# Altium footprint library am29-memory.PCBLIB: 16 footprints
Each footprint in its own frame and in the unit in brackets; x right, y up, seen from the top. Pads: shape width x height; smd on the part's side, far side on the other; paste and mask are expansions set on the pad; w line width, h text height; cw(c..) or ccw(c..) is an arc to the next point about the centre after c.
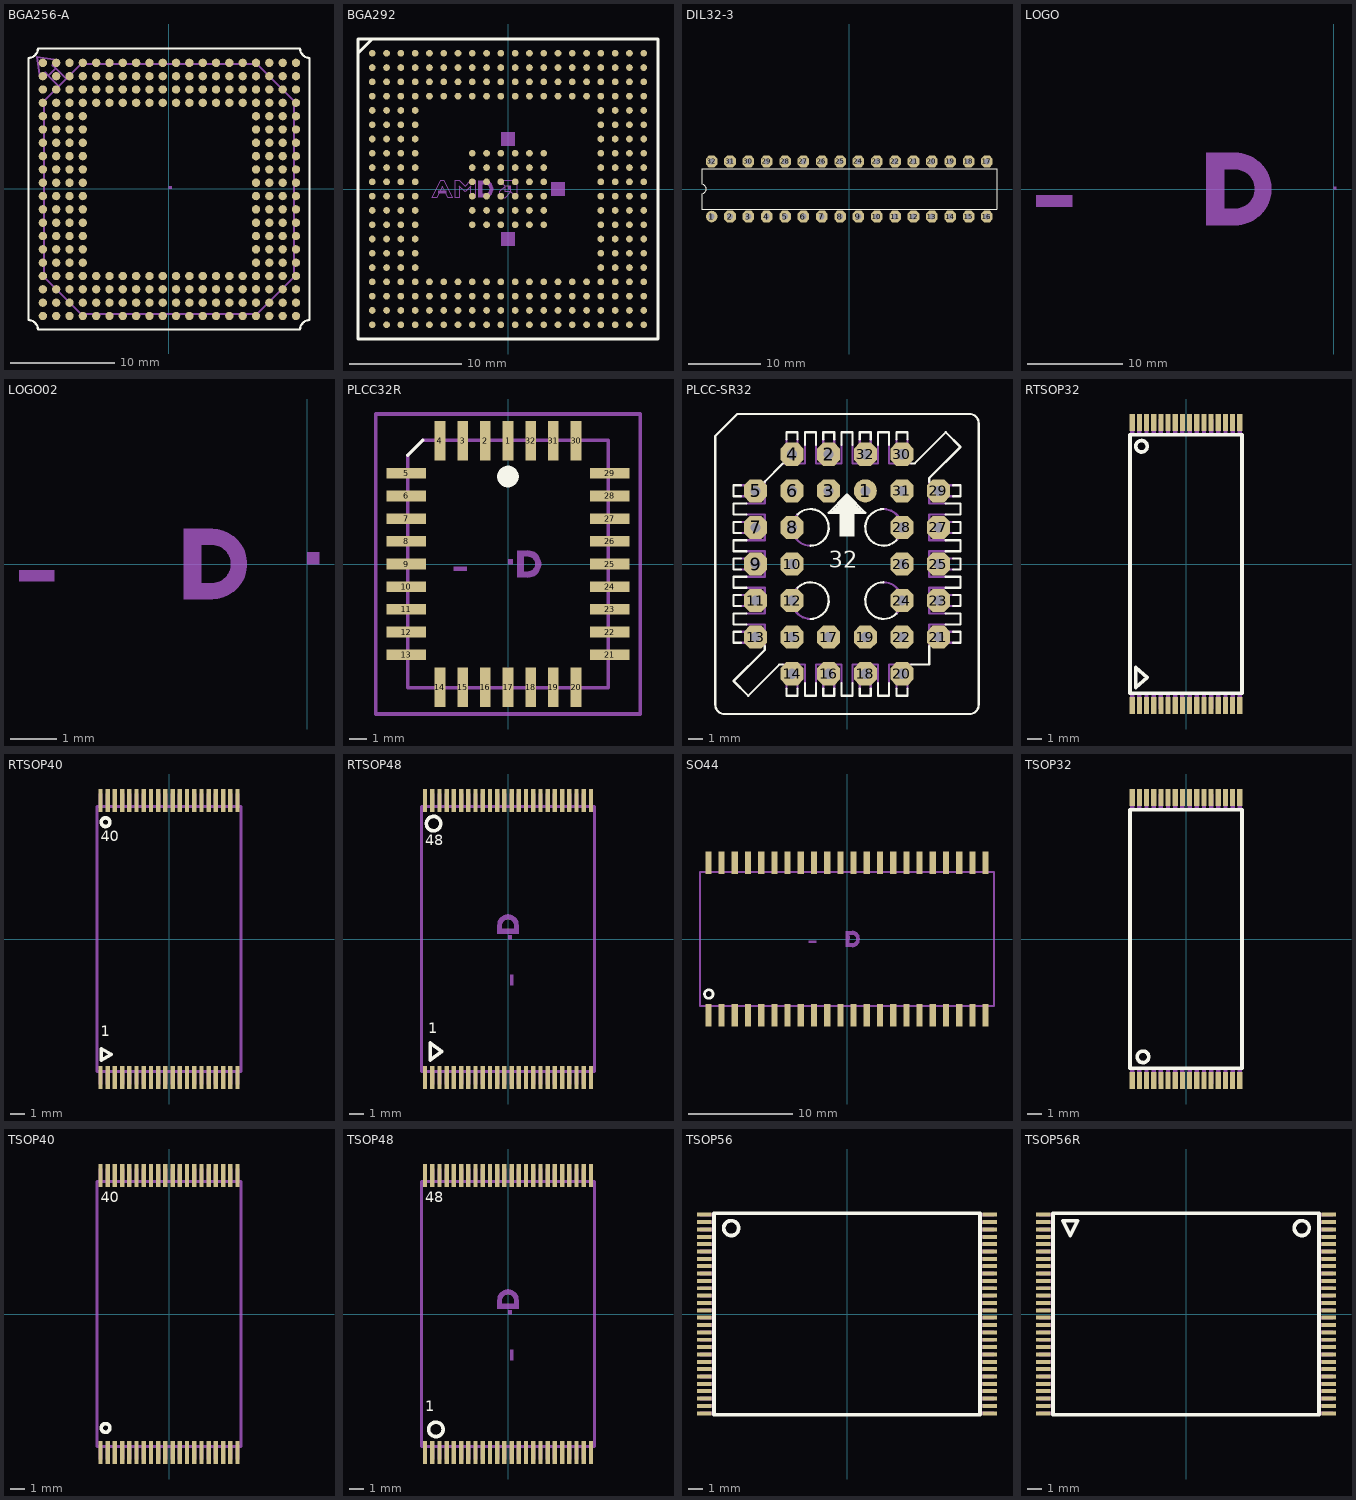
[diagram p0: the footprints below, top view; thin cyan lines are the x and y axes]

## BGA256-A [mil]
pads (256):
  rrect100% 31.5x31.5 smd: A1(-473.43,473.43) A2(-423.43,473.43) A3(-373.43,473.43) A4(-323.43,473.43) A5(-273.43,473.43) A6(-223.43,473.43) A7(-173.43,473.43) A8(-123.43,473.43) A9(-73.43,473.43) A10(-23.43,473.43) A11(26.57,473.43) A12(76.57,473.43) A13(126.57,473.43) A14(176.57,473.43) A15(226.57,473.43) A16(276.57,473.43) A17(326.57,473.43) A18(376.57,473.43) A19(426.57,473.43) A20(476.57,473.43) B1(-473.43,423.43) B2(-423.43,423.43) B3(-373.43,423.43) B4(-323.43,423.43) B5(-273.43,423.43) B6(-223.43,423.43) B7(-173.43,423.43) B8(-123.43,423.43) B9(-73.43,423.43) B10(-23.43,423.43) B11(26.57,423.43) B12(76.57,423.43) B13(126.57,423.43) B14(176.57,423.43) B15(226.57,423.43) B16(276.57,423.43) B17(326.57,423.43) B18(376.57,423.43) B19(426.57,423.43) B20(476.57,423.43) C1(-473.43,373.43) C2(-423.43,373.43) C3(-373.43,373.43) C4(-323.43,373.43) C5(-273.43,373.43) C6(-223.43,373.43) C7(-173.43,373.43) C8(-123.43,373.43) C9(-73.43,373.43) C10(-23.43,373.43) C11(26.57,373.43) C12(76.57,373.43) C13(126.57,373.43) C14(176.57,373.43) C15(226.57,373.43) C16(276.57,373.43) C17(326.57,373.43) C18(376.57,373.43) C19(426.57,373.43) C20(476.57,373.43) D1(-473.43,323.43) D2(-423.43,323.43) D3(-373.43,323.43) D4(-323.43,323.43) D5(-273.43,323.43) D6(-223.43,323.43) D7(-173.43,323.43) D8(-123.43,323.43) D9(-73.43,323.43) D10(-23.43,323.43) D11(26.57,323.43) D12(76.57,323.43) D13(126.57,323.43) D14(176.57,323.43) D15(226.57,323.43) D16(276.57,323.43) D17(326.57,323.43) D18(376.57,323.43) D19(426.57,323.43) D20(476.57,323.43) E1(-473.43,273.43) E2(-423.43,273.43) E3(-373.43,273.43) E4(-323.43,273.43) E17(326.57,273.43) E18(376.57,273.43) E19(426.57,273.43) E20(476.57,273.43) F1(-473.43,223.43) F2(-423.43,223.43) F3(-373.43,223.43) F4(-323.43,223.43) F17(326.57,223.43) F18(376.57,223.43) F19(426.57,223.43) F20(476.57,223.43) G1(-473.43,173.43) G2(-423.43,173.43) G3(-373.43,173.43) G4(-323.43,173.43) G17(326.57,173.43) G18(376.57,173.43) G19(426.57,173.43) G20(476.57,173.43) H1(-473.43,123.43) H2(-423.43,123.43) H3(-373.43,123.43) H4(-323.43,123.43) H17(326.57,123.43) H18(376.57,123.43) H19(426.57,123.43) H20(476.57,123.43) J1(-473.43,73.43) J2(-423.43,73.43) J3(-373.43,73.43) J4(-323.43,73.43) J17(326.57,73.43) J18(376.57,73.43) J19(426.57,73.43) J20(476.57,73.43) K1(-473.43,23.43) K2(-423.43,23.43) K3(-373.43,23.43) K4(-323.43,23.43) K17(326.57,23.43) K18(376.57,23.43) K19(426.57,23.43) K20(476.57,23.43) L1(-473.43,-26.57) L2(-423.43,-26.57) L3(-373.43,-26.57) L4(-323.43,-26.57) L17(326.57,-26.57) L18(376.57,-26.57) L19(426.57,-26.57) L20(476.57,-26.57) M1(-473.43,-76.57) M2(-423.43,-76.57) M3(-373.43,-76.57) M4(-323.43,-76.57) M17(326.57,-76.57) M18(376.57,-76.57) M19(426.57,-76.57) M20(476.57,-76.57) N1(-473.43,-126.57) N2(-423.43,-126.57) N3(-373.43,-126.57) N4(-323.43,-126.57) N17(326.57,-126.57) N18(376.57,-126.57) N19(426.57,-126.57) N20(476.57,-126.57) P1(-473.43,-176.57) P2(-423.43,-176.57) P3(-373.43,-176.57) P4(-323.43,-176.57) P17(326.57,-176.57) P18(376.57,-176.57) P19(426.57,-176.57) P20(476.57,-176.57) R1(-473.43,-226.57) R2(-423.43,-226.57) R3(-373.43,-226.57) R4(-323.43,-226.57) R17(326.57,-226.57) R18(376.57,-226.57) R19(426.57,-226.57) R20(476.57,-226.57) T1(-473.43,-276.57) T2(-423.43,-276.57) T3(-373.43,-276.57) T4(-323.43,-276.57) T17(326.57,-276.57) T18(376.57,-276.57) T19(426.57,-276.57) T20(476.57,-276.57) U1(-473.43,-326.57) U2(-423.43,-326.57) U3(-373.43,-326.57) U4(-323.43,-326.57) U5(-273.43,-326.57) U6(-223.43,-326.57) U7(-173.43,-326.57) U8(-123.43,-326.57) U9(-73.43,-326.57) U10(-23.43,-326.57) U11(26.57,-326.57) U12(76.57,-326.57) U13(126.57,-326.57) U14(176.57,-326.57) U15(226.57,-326.57) U16(276.57,-326.57) U17(326.57,-326.57) U18(376.57,-326.57) U19(426.57,-326.57) U20(476.57,-326.57) V1(-473.43,-376.57) V2(-423.43,-376.57) V3(-373.43,-376.57) V4(-323.43,-376.57) V5(-273.43,-376.57) V6(-223.43,-376.57) V7(-173.43,-376.57) V8(-123.43,-376.57) V9(-73.43,-376.57) V10(-23.43,-376.57) V11(26.57,-376.57) V12(76.57,-376.57) V13(126.57,-376.57) V14(176.57,-376.57) V15(226.57,-376.57) V16(276.57,-376.57) V17(326.57,-376.57) V18(376.57,-376.57) V19(426.57,-376.57) V20(476.57,-376.57) W1(-473.43,-426.57) W2(-423.43,-426.57) W3(-373.43,-426.57) W4(-323.43,-426.57) W5(-273.43,-426.57) W6(-223.43,-426.57) W7(-173.43,-426.57) W8(-123.43,-426.57) W9(-73.43,-426.57) W10(-23.43,-426.57) W11(26.57,-426.57) W12(76.57,-426.57) W13(126.57,-426.57) W14(176.57,-426.57) W15(226.57,-426.57) W16(276.57,-426.57) W17(326.57,-426.57) W18(376.57,-426.57) W19(426.57,-426.57) W20(476.57,-426.57) Y1(-473.43,-476.57) Y2(-423.43,-476.57) Y3(-373.43,-476.57) Y4(-323.43,-476.57) Y5(-273.43,-476.57) Y6(-223.43,-476.57) Y7(-173.43,-476.57) Y8(-123.43,-476.57) Y9(-73.43,-476.57) Y10(-23.43,-476.57) Y11(26.57,-476.57) Y12(76.57,-476.57) Y13(126.57,-476.57) Y14(176.57,-476.57) Y15(226.57,-476.57) Y16(276.57,-476.57) Y17(326.57,-476.57) Y18(376.57,-476.57) Y19(426.57,-476.57) Y20(476.57,-476.57)
Top Overlay:
  lines w8: -527.56,-492.13 -527.56,492.13 ccw(c-527.56,527.56) -492.13,527.56 492.13,527.56 ccw(c527.56,527.56) 527.56,492.13 527.56,-492.13 ccw(c527.56,-527.56) 492.13,-527.56 -492.13,-527.56 ccw(c-527.56,-527.56) -527.56,-492.13
Mechanical 16:
  region: 0,0 10,0 10,10 0,10
  region: 0,0 10,0 10,10 0,10
  lines w8: -452.76,425.2 -464.57,437.01 -484.25,417.32 -496.06,496.06 -417.32,484.25 -437.01,464.57 -425.2,452.76 ; -452.76,425.2 -413.39,385.83 ; -452.76,425.2 -425.2,452.76 ; -425.2,452.76 -385.83,413.39 ; -413.39,385.83 -468.5,330.71 -468.5,-330.71 -330.71,-468.5 330.71,-468.5 468.5,-330.71 468.5,330.71 330.71,468.5 -330.71,468.5 -385.83,413.39 ; -413.39,385.83 -385.83,413.39 ; -413.39,385.83 -385.83,413.39

## BGA292 [mil]
pads (292):
  rrect100% 23.62x23.62 smd: A01(-475,475) A02(-425,475) A03(-375,475) A04(-325,475) A05(-275,475) A06(-225,475) A07(-175,475) A08(-125,475) A09(-75,475) A10(-25,475) A11(25,475) A12(75,475) A13(125,475) A14(175,475) A15(225,475) A16(275,475) A17(325,475) A18(375,475) A19(425,475) A20(475,475) B01(-475,425) B02(-425,425) B03(-375,425) B04(-325,425) B05(-275,425) B06(-225,425) B07(-175,425) B08(-125,425) B09(-75,425) B10(-25,425) B11(25,425) B12(75,425) B13(125,425) B14(175,425) B15(225,425) B16(275,425) B17(325,425) B18(375,425) B19(425,425) B20(475,425) C01(-475,375) C02(-425,375) C03(-375,375) C04(-325,375) C05(-275,375) C06(-225,375) C07(-175,375) C08(-125,375) C09(-75,375) C10(-25,375) C11(25,375) C12(75,375) C13(125,375) C14(175,375) C15(225,375) C16(275,375) C17(325,375) C18(375,375) C19(425,375) C20(475,375) D01(-475,325) D02(-425,325) D03(-375,325) D04(-325,325) D05(-275,325) D06(-225,325) D07(-175,325) D08(-125,325) D09(-75,325) D10(-25,325) D11(25,325) D12(75,325) D13(125,325) D14(175,325) D15(225,325) D16(275,325) D17(325,325) D18(375,325) D19(425,325) D20(475,325) E01(-475,275) E02(-425,275) E03(-375,275) E04(-325,275) E17(325,275) E18(375,275) E19(425,275) E20(475,275) F01(-475,225) F02(-425,225) F03(-375,225) F04(-325,225) F17(325,225) F18(375,225) F19(425,225) F20(475,225) G01(-475,175) G02(-425,175) G03(-375,175) G04(-325,175) G17(325,175) G18(375,175) G19(425,175) G20(475,175) H01(-475,125) H02(-425,125) H03(-375,125) H04(-325,125) H08(-125,125) H09(-75,125) H10(-25,125) H11(25,125) H12(75,125) H13(125,125) H17(325,125) H18(375,125) H19(425,125) H20(475,125) J01(-475,75) J02(-425,75) J03(-375,75) J04(-325,75) J08(-125,75) J09(-75,75) J10(-25,75) J11(25,75) J12(75,75) J13(125,75) J17(325,75) J18(375,75) J19(425,75) J20(475,75) K01(-475,25) K02(-425,25) K03(-375,25) K04(-325,25) K08(-125,25) K09(-75,25) K10(-25,25) K11(25,25) K12(75,25) K13(125,25) K17(325,25) K18(375,25) K19(425,25) K20(475,25) L01(-475,-25) L02(-425,-25) L03(-375,-25) L04(-325,-25) L08(-125,-25) L09(-75,-25) L10(-25,-25) L11(25,-25) L12(75,-25) L13(125,-25) L17(325,-25) L18(375,-25) L19(425,-25) L20(475,-25) M01(-475,-75) M02(-425,-75) M03(-375,-75) M04(-325,-75) M08(-125,-75) M09(-75,-75) M10(-25,-75) M11(25,-75) M12(75,-75) M13(125,-75) M17(325,-75) M18(375,-75) M19(425,-75) M20(475,-75) N01(-475,-125) N02(-425,-125) N03(-375,-125) N04(-325,-125) N08(-125,-125) N09(-75,-125) N10(-25,-125) N11(25,-125) N12(75,-125) N13(125,-125) N17(325,-125) N18(375,-125) N19(425,-125) N20(475,-125) P01(-475,-175) P02(-425,-175) P03(-375,-175) P04(-325,-175) P17(325,-175) P18(375,-175) P19(425,-175) P20(475,-175) R01(-475,-225) R02(-425,-225) R03(-375,-225) R04(-325,-225) R17(325,-225) R18(375,-225) R19(425,-225) R20(475,-225) T01(-475,-275) T02(-425,-275) T03(-375,-275) T04(-325,-275) T17(325,-275) T18(375,-275) T19(425,-275) T20(475,-275) U01(-475,-325) U02(-425,-325) U03(-375,-325) U04(-325,-325) U05(-275,-325) U06(-225,-325) U07(-175,-325) U08(-125,-325) U09(-75,-325) U10(-25,-325) U11(25,-325) U12(75,-325) U13(125,-325) U14(175,-325) U15(225,-325) U16(275,-325) U17(325,-325) U18(375,-325) U19(425,-325) U20(475,-325) V01(-475,-375) V02(-425,-375) V03(-375,-375) V04(-325,-375) V05(-275,-375) V06(-225,-375) V07(-175,-375) V08(-125,-375) V09(-75,-375) V10(-25,-375) V11(25,-375) V12(75,-375) V13(125,-375) V14(175,-375) V15(225,-375) V16(275,-375) V17(325,-375) V18(375,-375) V19(425,-375) V20(475,-375) W01(-475,-425) W02(-425,-425) W03(-375,-425) W04(-325,-425) W05(-275,-425) W06(-225,-425) W07(-175,-425) W08(-125,-425) W09(-75,-425) W10(-25,-425) W11(25,-425) W12(75,-425) W13(125,-425) W14(175,-425) W15(225,-425) W16(275,-425) W17(325,-425) W18(375,-425) W19(425,-425) W20(475,-425) Y01(-475,-475) Y02(-425,-475) Y03(-375,-475) Y04(-325,-475) Y05(-275,-475) Y06(-225,-475) Y07(-175,-475) Y08(-125,-475) Y09(-75,-475) Y10(-25,-475) Y11(25,-475) Y12(75,-475) Y13(125,-475) Y14(175,-475) Y15(225,-475) Y16(275,-475) Y17(325,-475) Y18(375,-475) Y19(425,-475) Y20(475,-475)
Top Overlay:
  lines w10: -525,475 -525,-525 525,-525 525,525 -475,525 ; -525,475 -525,525 -475,525 ; -525,475 -475,525
Mechanical 16:
  rectangle: -25,150 25,200
  rectangle: -25,-200 25,-150
  rectangle: 150,-25 200,25
  rectangle: -102,16 -80,30
  rectangle: -102,-30 -80,-16
  rectangle: -245,-15 -215,-5
  rectangle: -105,-30 -90,30
  region: 0,0 10,0 10,10 0,10
  region: 0,0 10,0 10,10 0,10
  region: 0,0 10,0 10,10 0,10
  region: 0,0 10,0 10,10 0,10
  lines w2: -81,-29 ccw(c-81,0) -81,29 ; -10,10 10,10 10,-10 ; -10,10 -30,30 30,30 30,-30 10,-10 ; -10,10 -30,-10 -30,-30 -10,-30 10,-10 ; -10,10 -10,-10 10,-10 ; -265,-30 -235,30 -225,30 -195,-30 -210,-30 -230,10 -250,-30 -265,-30 ; -185,-30 -185,30 -170,30 -150,10 -130,30 -115,30 -115,-30 -130,-30 -130,10 -150,-10 -170,10 -170,-30 -185,-30
  lines w8: -81,-25 ccw(c-81,0) -81,25
  lines w10: -81,-21 ccw(c-81,0) -81,21
  text "1" at -475,500 h24.8
  text "2" at -425,500 h24.8
  text "3" at -375,500 h24.8
  text "4" at -325,500 h24.8
  text "5" at -275,500 h24.8
  text "6" at -225,500 h24.8
  text "7" at -175,500 h24.8
  text "8" at -125,500 h24.8
  text "9" at -75,500 h24.8
  text "10" at -25,500 h24.8
  text "11" at 25,500 h24.8
  text "12" at 75,500 h24.8
  text "13" at 125,500 h24.8
  text "14" at 175,500 h24.8
  text "15" at 225,500 h24.8
  text "16" at 275,500 h24.8
  text "17" at 325,500 h24.8
  text "18" at 375,500 h24.8
  text "19" at 425,500 h24.8
  text "20" at 475,500 h24.8
  text "A" at -510,470 h24.8
  text "B" at -510,420 h24.8
  text "C" at -510,370 h24.8
  text "D" at -510,320 h24.8
  text "E" at -510,270 h24.8
  text "F" at -510,220 h24.8
  text "G" at -510,170 h24.8
  text "H" at -510,120 h24.8
  text "J" at -510,70 h24.8
  text "K" at -510,20 h24.8
  text "L" at -510,-30 h24.8
  text "M" at -510,-80 h24.8
  text "N" at -510,-130 h24.8
  text "P" at -510,-180 h24.8
  text "R" at -510,-230 h24.8
  text "T" at -510,-280 h24.8
  text "U" at -510,-330 h24.8
  text "V" at -510,-380 h24.8
  text "W" at -510,-430 h24.8
  text "Y" at -510,-480 h24.8

## DIL32-3 [mil]
pads (32):
  round 63 hole 32: 1(-750,-150)
  oct 63x63 hole 32: 2(-650,-150) 3(-550,-150) 4(-450,-150) 5(-350,-150) 6(-250,-150) 7(-150,-150) 8(-50,-150) 9(50,-150) 10(150,-150) 11(250,-150) 12(350,-150) 13(450,-150) 14(550,-150) 15(650,-150) 16(750,-150) 17(750,150) 18(650,150) 19(550,150) 20(450,150) 21(350,150) 22(250,150) 23(150,150) 24(50,150) 25(-50,150) 26(-150,150) 27(-250,150) 28(-350,150) 29(-450,150) 30(-550,150) 31(-650,150) 32(-750,150)
Top Overlay:
  lines w6: -805,-110 -805,-25 ccw(c-805,0) -805,25 -805,110 805,110 805,-110 -805,-110

## LOGO [mil]
Mechanical 16:
  rectangle: -510,80 -400,150
  rectangle: -510,-150 -400,-80
  rectangle: -1225,-75 -1075,-25
  rectangle: -525,-150 -450,150
  region: 0,0 10,0 10,10 0,10
  region: 0,0 10,0 10,10 0,10
  region: 0,0 10,0 10,10 0,10
  region: 0,0 10,0 10,10 0,10
  lines w10: -405,-145 ccw(c-405,0) -405,145
  lines w40: -405,-125 ccw(c-405,0) -405,125
  lines w50: -405,-105 ccw(c-405,0) -405,105

## LOGO02 [mil]
Mechanical 16:
  rectangle: -102,16 -80,30
  rectangle: -102,-30 -80,-16
  rectangle: -245,-15 -215,-5
  rectangle: -105,-30 -90,30
  region: 0,0 10,0 10,10 0,10
  region: 0,0 10,0 10,10 0,10
  region: 0,0 10,0 10,10 0,10
  region: 0,0 10,0 10,10 0,10
  lines w2: -81,-29 ccw(c-81,0) -81,29
  lines w8: -81,-25 ccw(c-81,0) -81,25
  lines w10: -81,-21 ccw(c-81,0) -81,21

## PLCC32R [mm]
pads (32):
  rect 0.6x2.2 smd: 1(0,6.9) 2(-1.27,6.9) 3(-2.54,6.9) 4(-3.81,6.9) 14(-3.81,-6.9) 15(-2.54,-6.9) 16(-1.27,-6.9) 17(0,-6.9) 18(1.27,-6.9) 19(2.54,-6.9) 20(3.81,-6.9) 30(3.81,6.9) 31(2.54,6.9) 32(1.27,6.9)
  rect 2.2x0.6 smd: 5(-5.7,5.08) 6(-5.7,3.81) 7(-5.7,2.54) 8(-5.7,1.27) 9(-5.7,0) 10(-5.7,-1.27) 11(-5.7,-2.54) 12(-5.7,-3.81) 13(-5.7,-5.08) 21(5.7,-5.08) 22(5.7,-3.81) 23(5.7,-2.54) 24(5.7,-1.27) 25(5.7,0) 26(5.7,1.27) 27(5.7,2.54) 28(5.7,3.81) 29(5.7,5.08)
Top Overlay:
  circle w0.61: c0,4.9 r0.3
  lines w0.203: -5.61,6.09 -4.77,6.93
Mechanical 16:
  rectangle: -0.26,6.95 0.27,7.53
  rectangle: -1.53,6.95 -1,7.53
  rectangle: -2.8,6.95 -2.27,7.53
  rectangle: -4.07,6.95 -3.54,7.53
  rectangle: -6.33,3.55 -5.75,4.08
  rectangle: -6.33,2.28 -5.75,2.81
  rectangle: -6.33,1.01 -5.75,1.54
  rectangle: -6.33,-0.26 -5.75,0.27
  rectangle: -6.33,-1.53 -5.75,-1
  rectangle: -6.33,-2.8 -5.75,-2.27
  rectangle: -6.33,-4.07 -5.75,-3.54
  rectangle: -6.33,4.82 -5.75,5.35
  rectangle: -6.33,-5.34 -5.75,-4.81
  rectangle: -4.08,-7.53 -3.55,-6.95
  rectangle: -2.81,-7.53 -2.28,-6.95
  rectangle: -1.54,-7.53 -1.01,-6.95
  rectangle: -0.27,-7.53 0.26,-6.95
  rectangle: 1,-7.53 1.53,-6.95
  rectangle: 2.27,-7.53 2.8,-6.95
  rectangle: 3.54,-7.53 4.07,-6.95
  rectangle: 5.75,-5.35 6.33,-4.82
  rectangle: 5.75,-4.08 6.33,-3.55
  rectangle: 5.75,-2.81 6.33,-2.28
  rectangle: 5.75,-1.54 6.33,-1.01
  rectangle: 5.75,-0.27 6.33,0.26
  rectangle: 5.75,1 6.33,1.53
  rectangle: 5.75,2.27 6.33,2.8
  rectangle: 5.75,3.54 6.33,4.07
  rectangle: 5.75,4.81 6.33,5.34
  rectangle: 3.55,6.95 4.08,7.53
  rectangle: 2.28,6.95 2.81,7.53
  rectangle: 1.01,6.95 1.54,7.53
  rectangle: 0.584,0.406 1.143,0.762
  rectangle: 0.584,-0.762 1.143,-0.406
  rectangle: -3.048,-0.381 -2.286,-0.127
  rectangle: 0.508,-0.762 0.889,0.762
  region: 0,0 0.254,0 0.254,0.254 0,0.254
  region: 0,0 0.254,0 0.254,0.254 0,0.254
  region: 0,0 0.254,0 0.254,0.254 0,0.254
  region: 0,0 0.254,0 0.254,0.254 0,0.254
  lines w0.051: 1.118,-0.737 ccw(c1.118,0) 1.118,0.737
  lines w0.203: -5.61,6.09 -5.61,-6.93 5.61,-6.93 5.61,6.93 -4.77,6.93 ; 1.118,-0.635 ccw(c1.118,0) 1.118,0.635
  lines w0.254: 1.118,-0.533 ccw(c1.118,0) 1.118,0.533
Mechanical 27:
  lines w0.203: -7.403,-8.403 7.403,-8.403 7.403,8.403 -7.403,8.403 -7.403,-8.403

## PLCC-SR32 [mil]
pads (32):
  round 63 hole 27.56: 1(50,200)
  oct 63x63 hole 27.56: 2(-50,300) 3(-50,200) 4(-150,300) 5(-250,200) 6(-150,200) 7(-250,100) 8(-150,100) 9(-250,0) 10(-150,0) 11(-250,-100) 12(-150,-100) 13(-250,-200) 14(-150,-300) 15(-150,-200) 16(-50,-300) 17(-50,-200) 18(50,-300) 19(50,-200) 20(150,-300) 21(250,-200) 22(150,-200) 23(250,-100) 24(150,-100) 25(250,0) 26(150,0) 27(250,100) 28(150,100) 29(250,200) 30(150,300) 31(150,200) 32(50,300)
Top Overlay:
  rectangle: -20,75 20,150
  rectangle: -35,140 35,155
  rectangle: -25,155 25,165
  rectangle: -15,165 15,175
  rectangle: -5,175 5,185
  rectangle: -45,140 -35,145
  rectangle: -40,145 -35,150
  rectangle: -30,155 -25,160
  rectangle: -20,165 -15,170
  rectangle: -10,175 -5,180
  rectangle: 5,175 10,180
  rectangle: 15,165 20,170
  rectangle: 25,155 30,160
  rectangle: 35,140 45,145
  rectangle: 35,145 40,150
  lines w6: -290,-215 -310,-215 -310,-185 -290,-185 ; -290,-115 -310,-115 -310,-85 -290,-85 ; -290,-15 -310,-15 -310,15 -290,15 ; -290,85 -310,85 -310,115 -290,115 ; -290,185 -310,185 -310,215 -290,215 ; -275,-165 -310,-165 -310,-135 -275,-135 ; -275,-65 -310,-65 -310,-35 -275,-35 ; -275,35 -310,35 -310,65 -275,65 ; -275,135 -310,135 -310,165 -275,165 ; -225,-225 -225,-235 -310,-320 -270,-360 -185,-275 -175,-275 ; -225,225 -175,275 ; -165,-340 -165,-360 -135,-360 -135,-340 ; -165,340 -165,360 -135,360 -135,340 ; -135.35,-64.65 cw(c-100,-100) -100,-150 ; -135.35,135.35 cw(c-100,100) -100,50 ; -115,-325 -115,-360 -85,-360 -85,-325 ; -115,325 -115,360 -85,360 -85,325 ; -65,-340 -65,-360 -35,-360 -35,-340 ; -65,340 -65,360 -35,360 -35,340 ; -15,-325 -15,-360 15,-360 15,-325 ; -15,325 -15,360 15,360 15,325 ; 35,-340 35,-360 65,-360 65,-340 ; 35,340 35,360 65,360 65,340 ; 85,-325 85,-360 115,-360 115,-325 ; 85,325 85,360 115,360 115,325 ; 100,-50 ccw(c100,-100) 135.35,-135.35 ; 100,150 ccw(c100,100) 135.35,64.65 ; 135,-340 135,-360 165,-360 165,-340 ; 135,340 135,360 165,360 165,340 ; 175,-275 225,-275 225,-225 ; 175,275 185,275 270,360 310,320 225,235 225,225 ; 270,-165 310,-165 310,-135 270,-135 ; 270,-65 310,-65 310,-35 270,-35 ; 270,35 310,35 310,65 270,65 ; 270,135 310,135 310,165 270,165 ; 290,-215 310,-215 310,-185 290,-185 ; 290,-115 310,-115 310,-85 290,-85 ; 290,-15 310,-15 310,15 290,15 ; 290,85 310,85 310,115 290,115 ; 290,185 310,185 310,215 290,215 ; -360,-385 -360,350 -300,410 335,410 cw(c335,385) 360,385 360,-385 cw(c335,-385) 335,-410 -335,-410 cw(c-335,-385) -360,-385 ; -50,140 50,140 0,190 -50,140
  text "32" at -50,-25 h77.5
Mechanical 16:
  lines w6: -290,-215 -225,-215 -225,-225 ; -290,-185 -225,-185 -225,-165 -275,-165 ; -290,-115 -225,-115 -225,-135 -275,-135 ; -290,-85 -225,-85 -225,-65 -275,-65 ; -290,-15 -225,-15 -225,-35 -275,-35 ; -290,15 -225,15 -225,35 -275,35 ; -290,85 -225,85 -225,65 -275,65 ; -290,115 -225,115 -225,135 -275,135 ; -290,185 -225,185 -225,165 -275,165 ; -290,215 -225,215 -225,225 ; -175,-275 -165,-275 -165,-340 ; -175,275 -165,275 -165,340 ; -135.35,-64.65 ccw(c-100,-100.01) -150,-100 ccw(c-100,-100) -100,-150 ; -135.35,135.35 ccw(c-100,99.99) -150,100 ccw(c-100,100) -100,50 ; -135,-340 -135,-275 -115,-275 -115,-325 ; -135,340 -135,275 -115,275 -115,325 ; -85,-325 -85,-275 -65,-275 -65,-340 ; -85,325 -85,275 -65,275 -65,340 ; -35,-340 -35,-275 -15,-275 -15,-325 ; -35,340 -35,275 -15,275 -15,325 ; 15,-325 15,-275 35,-275 35,-340 ; 15,325 15,275 35,275 35,340 ; 65,-340 65,-275 85,-275 85,-325 ; 65,340 65,275 85,275 85,325 ; 100,-50 cw(c100,-100) 150,-100 cw(c100,-99.99) 135.35,-135.35 ; 100,150 cw(c100,100) 150,100 cw(c100,100.01) 135.35,64.65 ; 115,-325 115,-275 135,-275 135,-340 ; 115,325 115,275 135,275 135,340 ; 165,-340 165,-275 175,-275 ; 165,340 165,275 175,275 ; 225,-225 225,-215 290,-215 ; 225,225 225,215 290,215 ; 270,-165 225,-165 225,-185 290,-185 ; 270,-135 225,-135 225,-115 290,-115 ; 270,-65 225,-65 225,-85 290,-85 ; 270,-35 225,-35 225,-15 290,-15 ; 270,35 225,35 225,15 290,15 ; 270,65 225,65 225,85 290,85 ; 270,135 225,135 225,115 290,115 ; 270,165 225,165 225,185 290,185

## RTSOP32 [mil]
pads (32):
  rect 14.17x47.24 smd: 1(-147.64,-387.8) 2(-127.95,-387.8) 3(-108.27,-387.8) 4(-88.58,-387.8) 5(-68.9,-387.8) 6(-49.21,-387.8) 7(-29.53,-387.8) 8(-9.84,-387.8) 9(9.84,-387.8) 10(29.53,-387.8) 11(49.21,-387.8) 12(68.9,-387.8) 13(88.58,-387.8) 14(108.27,-387.8) 15(127.95,-387.8) 16(147.64,-387.8) 17(147.64,387.8) 18(127.95,387.8) 19(108.27,387.8) 20(88.58,387.8) 21(68.9,387.8) 22(49.21,387.8) 23(29.53,387.8) 24(9.84,387.8) 25(-9.84,387.8) 26(-29.53,387.8) 27(-49.21,387.8) 28(-68.9,387.8) 29(-88.58,387.8) 30(-108.27,387.8) 31(-127.95,387.8) 32(-147.64,387.8)
Top Overlay:
  circle w10: c-122.05,322.83 r15.75
  lines w10: -153.54,-354.33 -153.54,354.33 153.54,354.33 153.54,-354.33 -153.54,-354.33 ; -137.8,-338.58 -106.3,-311.02 -137.8,-283.46 -137.8,-338.58
Mechanical 16:
  rectangle: -153.64,-398.02 -141.64,-356.02
  rectangle: -133.95,-398.02 -121.95,-356.02
  rectangle: -114.27,-398.02 -102.27,-356.02
  rectangle: -94.58,-398.02 -82.58,-356.02
  rectangle: -74.9,-398.02 -62.9,-356.02
  rectangle: -55.21,-398.02 -43.21,-356.02
  rectangle: -35.53,-398.02 -23.53,-356.02
  rectangle: -15.84,-398.02 -3.84,-356.02
  rectangle: 3.84,-398.02 15.84,-356.02
  rectangle: 23.53,-398.02 35.53,-356.02
  rectangle: 43.21,-398.02 55.21,-356.02
  rectangle: 62.9,-398.02 74.9,-356.02
  rectangle: 82.58,-398.02 94.58,-356.02
  rectangle: 102.27,-398.02 114.27,-356.02
  rectangle: 121.95,-398.02 133.95,-356.02
  rectangle: 141.64,-398.02 153.64,-356.02
  rectangle: 141.64,356.02 153.64,398.02
  rectangle: 121.95,356.02 133.95,398.02
  rectangle: 102.27,356.02 114.27,398.02
  rectangle: 82.58,356.02 94.58,398.02
  rectangle: 62.9,356.02 74.9,398.02
  rectangle: 43.21,356.02 55.21,398.02
  rectangle: 23.53,356.02 35.53,398.02
  rectangle: 3.84,356.02 15.84,398.02
  rectangle: -15.84,356.02 -3.84,398.02
  rectangle: -35.53,356.02 -23.53,398.02
  rectangle: -55.21,356.02 -43.21,398.02
  rectangle: -74.9,356.02 -62.9,398.02
  rectangle: -94.58,356.02 -82.58,398.02
  rectangle: -114.27,356.02 -102.27,398.02
  rectangle: -133.95,356.02 -121.95,398.02
  rectangle: -153.64,356.02 -141.64,398.02

## RTSOP40 [mil]
pads (40):
  rect 11.81x62.99 smd: 1(-187.01,-377.95) 2(-167.32,-377.95) 3(-147.64,-377.95) 4(-127.95,-377.95) 5(-108.27,-377.95) 6(-88.58,-377.95) 7(-68.9,-377.95) 8(-49.21,-377.95) 9(-29.53,-377.95) 10(-9.84,-377.95) 11(9.84,-377.95) 12(29.53,-377.95) 13(49.21,-377.95) 14(68.9,-377.95) 15(88.58,-377.95) 16(108.27,-377.95) 17(127.95,-377.95) 18(147.64,-377.95) 19(167.32,-377.95) 20(187.01,-377.95) 21(187.01,377.95) 22(167.32,377.95) 23(147.64,377.95) 24(127.95,377.95) 25(108.27,377.95) 26(88.58,377.95) 27(68.9,377.95) 28(49.21,377.95) 29(29.53,377.95) 30(9.84,377.95) 31(-9.84,377.95) 32(-29.53,377.95) 33(-49.21,377.95) 34(-68.9,377.95) 35(-88.58,377.95) 36(-108.27,377.95) 37(-127.95,377.95) 38(-147.64,377.95) 39(-167.32,377.95) 40(-187.01,377.95)
Top Overlay:
  circle w10: c-173.23,318.9 r11.81
  lines w10: -185.04,-330.71 -185.04,-299.21 -157.48,-314.96 -185.04,-330.71
  text "1" at -186.27,-274.8 h49.6
  text "40" at -186.27,256.69 h49.6
Mechanical 16:
  rectangle: -192.91,-397.64 -181.1,-364.17
  rectangle: -173.23,-397.64 -161.42,-364.17
  rectangle: -153.54,-397.64 -141.73,-364.17
  rectangle: -133.86,-397.64 -122.05,-364.17
  rectangle: -114.17,-397.64 -102.36,-364.17
  rectangle: -94.49,-397.64 -82.68,-364.17
  rectangle: -74.8,-397.64 -62.99,-364.17
  rectangle: -55.12,-397.64 -43.31,-364.17
  rectangle: -35.43,-397.64 -23.62,-364.17
  rectangle: -15.75,-397.64 -3.94,-364.17
  rectangle: 3.94,-397.64 15.75,-364.17
  rectangle: 23.62,-397.64 35.43,-364.17
  rectangle: 43.31,-397.64 55.12,-364.17
  rectangle: 62.99,-397.64 74.8,-364.17
  rectangle: 82.68,-397.64 94.49,-364.17
  rectangle: 102.36,-397.64 114.17,-364.17
  rectangle: 122.05,-397.64 133.86,-364.17
  rectangle: 141.73,-397.64 153.54,-364.17
  rectangle: 161.42,-397.64 173.23,-364.17
  rectangle: 181.1,-397.64 192.91,-364.17
  rectangle: 181.1,364.17 192.91,397.64
  rectangle: 161.42,364.17 173.23,397.64
  rectangle: 141.73,364.17 153.54,397.64
  rectangle: 122.05,364.17 133.86,397.64
  rectangle: 102.36,364.17 114.17,397.64
  rectangle: 82.68,364.17 94.49,397.64
  rectangle: 62.99,364.17 74.8,397.64
  rectangle: 43.31,364.17 55.12,397.64
  rectangle: 23.62,364.17 35.43,397.64
  rectangle: 3.94,364.17 15.75,397.64
  rectangle: -15.75,364.17 -3.94,397.64
  rectangle: -35.43,364.17 -23.62,397.64
  rectangle: -55.12,364.17 -43.31,397.64
  rectangle: -74.8,364.17 -62.99,397.64
  rectangle: -94.49,364.17 -82.68,397.64
  rectangle: -114.17,364.17 -102.36,397.64
  rectangle: -133.86,364.17 -122.05,397.64
  rectangle: -153.54,364.17 -141.73,397.64
  rectangle: -173.23,364.17 -161.42,397.64
  rectangle: -192.91,364.17 -181.1,397.64
  lines w8: -196.65,-362.01 196.65,-362.01 196.65,362.01 -196.65,362.01 -196.65,-362.01

## RTSOP48 [mil]
pads (48):
  rect 11.81x62.99 smd: 1(-226.38,-377.95) 2(-206.69,-377.95) 3(-187.01,-377.95) 4(-167.32,-377.95) 5(-147.64,-377.95) 6(-127.95,-377.95) 7(-108.27,-377.95) 8(-88.58,-377.95) 9(-68.9,-377.95) 10(-49.21,-377.95) 11(-29.53,-377.95) 12(-9.84,-377.95) 13(9.84,-377.95) 14(29.53,-377.95) 15(49.21,-377.95) 16(68.9,-377.95) 17(88.58,-377.95) 18(108.27,-377.95) 19(127.95,-377.95) 20(147.64,-377.95) 21(167.32,-377.95) 22(187.01,-377.95) 23(206.69,-377.95) 24(226.38,-377.95) 25(226.38,377.95) 26(206.69,377.95) 27(187.01,377.95) 28(167.32,377.95) 29(147.64,377.95) 30(127.95,377.95) 31(108.27,377.95) 32(88.58,377.95) 33(68.9,377.95) 34(49.21,377.95) 35(29.53,377.95) 36(9.84,377.95) 37(-9.84,377.95) 38(-29.53,377.95) 39(-49.21,377.95) 40(-68.9,377.95) 41(-88.58,377.95) 42(-108.27,377.95) 43(-127.95,377.95) 44(-147.64,377.95) 45(-167.32,377.95) 46(-187.01,377.95) 47(-206.69,377.95) 48(-226.38,377.95)
Top Overlay:
  circle w10: c-203.15,314.96 r19.69
  lines w10: -212.6,-330.71 -212.6,-283.46 -181.1,-307.09 -212.6,-330.71
  text "1" at -217.76,-266.93 h49.6
  text "48" at -225.64,246.06 h49.6
Mechanical 16:
  rectangle: -232.28,-397.64 -220.47,-364.17
  rectangle: -212.6,-397.64 -200.79,-364.17
  rectangle: -192.91,-397.64 -181.1,-364.17
  rectangle: -173.23,-397.64 -161.42,-364.17
  rectangle: -153.54,-397.64 -141.73,-364.17
  rectangle: -133.86,-397.64 -122.05,-364.17
  rectangle: -114.17,-397.64 -102.36,-364.17
  rectangle: -94.49,-397.64 -82.68,-364.17
  rectangle: -74.8,-397.64 -62.99,-364.17
  rectangle: -55.12,-397.64 -43.31,-364.17
  rectangle: -35.43,-397.64 -23.62,-364.17
  rectangle: -15.75,-397.64 -3.94,-364.17
  rectangle: 3.94,-397.64 15.75,-364.17
  rectangle: 23.62,-397.64 35.43,-364.17
  rectangle: 43.31,-397.64 55.12,-364.17
  rectangle: 62.99,-397.64 74.8,-364.17
  rectangle: 82.68,-397.64 94.49,-364.17
  rectangle: 102.36,-397.64 114.17,-364.17
  rectangle: 122.05,-397.64 133.86,-364.17
  rectangle: 141.73,-397.64 153.54,-364.17
  rectangle: 161.42,-397.64 173.23,-364.17
  rectangle: 181.1,-397.64 192.91,-364.17
  rectangle: 200.79,-397.64 212.6,-364.17
  rectangle: 220.47,-397.64 232.28,-364.17
  rectangle: 220.47,364.17 232.28,397.64
  rectangle: 200.79,364.17 212.6,397.64
  rectangle: 181.1,364.17 192.91,397.64
  rectangle: 161.42,364.17 173.23,397.64
  rectangle: 141.73,364.17 153.54,397.64
  rectangle: 122.05,364.17 133.86,397.64
  rectangle: 102.36,364.17 114.17,397.64
  rectangle: 82.68,364.17 94.49,397.64
  rectangle: 62.99,364.17 74.8,397.64
  rectangle: 43.31,364.17 55.12,397.64
  rectangle: 23.62,364.17 35.43,397.64
  rectangle: 3.94,364.17 15.75,397.64
  rectangle: -15.75,364.17 -3.94,397.64
  rectangle: -35.43,364.17 -23.62,397.64
  rectangle: -55.12,364.17 -43.31,397.64
  rectangle: -74.8,364.17 -62.99,397.64
  rectangle: -94.49,364.17 -82.68,397.64
  rectangle: -114.17,364.17 -102.36,397.64
  rectangle: -133.86,364.17 -122.05,397.64
  rectangle: -153.54,364.17 -141.73,397.64
  rectangle: -173.23,364.17 -161.42,397.64
  rectangle: -192.91,364.17 -181.1,397.64
  rectangle: -212.6,364.17 -200.79,397.64
  rectangle: -232.28,364.17 -220.47,397.64
  rectangle: -30,16.11 -16,38.11
  rectangle: 16,16.11 30,38.11
  rectangle: 5,-126.89 15,-96.89
  rectangle: -30,13.11 30,28.11
  region: 0,0 10,0 10,10 0,10
  region: 0,0 10,0 10,10 0,10
  region: 0,0 10,0 10,10 0,10
  region: 0,0 10,0 10,10 0,10
  lines w2: -29,37.11 cw(c0,37.11) 29,37.11
  lines w8: -25,37.11 cw(c0,37.11) 25,37.11 ; -236.02,-362.01 236.02,-362.01 236.02,362.01 -236.02,362.01 -236.02,-362.01
  lines w10: -21,37.11 cw(c0,37.11) 21,37.11

## SO44 [mil]
pads (44):
  rect 23.62x86.61 smd: 1(-525,-288.98) 2(-475,-288.98) 3(-425,-288.98) 4(-375,-288.98) 5(-325,-288.98) 6(-275,-288.98) 7(-225,-288.98) 8(-175,-288.98) 9(-125,-288.98) 10(-75,-288.98) 11(-25,-288.98) 12(25,-288.98) 13(75,-288.98) 14(125,-288.98) 15(175,-288.98) 16(225,-288.98) 17(275,-288.98) 18(325,-288.98) 19(375,-288.98) 20(425,-288.98) 21(475,-288.98) 22(525,-288.98) 23(525,288.98) 24(475,288.98) 25(425,288.98) 26(375,288.98) 27(325,288.98) 28(275,288.98) 29(225,288.98) 30(175,288.98) 31(125,288.98) 32(75,288.98) 33(25,288.98) 34(-25,288.98) 35(-75,288.98) 36(-125,288.98) 37(-175,288.98) 38(-225,288.98) 39(-275,288.98) 40(-325,288.98) 41(-375,288.98) 42(-425,288.98) 43(-475,288.98) 44(-525,288.98)
Top Overlay:
  circle w10: c-523.62,-208.66 r16.23
Mechanical 16:
  rectangle: -534.65,-317.32 -515.35,-257.48
  rectangle: -484.65,-317.32 -465.35,-257.48
  rectangle: -434.65,-317.32 -415.35,-257.48
  rectangle: -384.65,-317.32 -365.35,-257.48
  rectangle: -334.65,-317.32 -315.35,-257.48
  rectangle: -284.65,-317.32 -265.35,-257.48
  rectangle: -234.65,-317.32 -215.35,-257.48
  rectangle: -184.65,-317.32 -165.35,-257.48
  rectangle: -134.65,-317.32 -115.35,-257.48
  rectangle: -84.65,-317.32 -65.35,-257.48
  rectangle: -34.65,-317.32 -15.35,-257.48
  rectangle: 15.35,-317.32 34.65,-257.48
  rectangle: 65.35,-317.32 84.65,-257.48
  rectangle: 115.35,-317.32 134.65,-257.48
  rectangle: 165.35,-317.32 184.65,-257.48
  rectangle: 215.35,-317.32 234.65,-257.48
  rectangle: 265.35,-317.32 284.65,-257.48
  rectangle: 315.35,-317.32 334.65,-257.48
  rectangle: 365.35,-317.32 384.65,-257.48
  rectangle: 415.35,-317.32 434.65,-257.48
  rectangle: 465.35,-317.32 484.65,-257.48
  rectangle: 515.35,-317.32 534.65,-257.48
  rectangle: 515.35,257.48 534.65,317.32
  rectangle: 465.35,257.48 484.65,317.32
  rectangle: 415.35,257.48 434.65,317.32
  rectangle: 365.35,257.48 384.65,317.32
  rectangle: 315.35,257.48 334.65,317.32
  rectangle: 265.35,257.48 284.65,317.32
  rectangle: 215.35,257.48 234.65,317.32
  rectangle: 165.35,257.48 184.65,317.32
  rectangle: 115.35,257.48 134.65,317.32
  rectangle: 65.35,257.48 84.65,317.32
  rectangle: 15.35,257.48 34.65,317.32
  rectangle: -34.65,257.48 -15.35,317.32
  rectangle: -84.65,257.48 -65.35,317.32
  rectangle: -134.65,257.48 -115.35,317.32
  rectangle: -184.65,257.48 -165.35,317.32
  rectangle: -234.65,257.48 -215.35,317.32
  rectangle: -284.65,257.48 -265.35,317.32
  rectangle: -334.65,257.48 -315.35,317.32
  rectangle: -384.65,257.48 -365.35,317.32
  rectangle: -434.65,257.48 -415.35,317.32
  rectangle: -484.65,257.48 -465.35,317.32
  rectangle: -534.65,257.48 -515.35,317.32
  rectangle: -2,16 20,30
  rectangle: -2,-30 20,-16
  rectangle: -145,-15 -115,-5
  rectangle: -5,-30 10,30
  region: 0,0 10,0 10,10 0,10
  region: 0,0 10,0 10,10 0,10
  region: 0,0 10,0 10,10 0,10
  region: 0,0 10,0 10,10 0,10
  lines w2: 19,-29 ccw(c19,0) 19,29
  lines w8: 19,-25 ccw(c19,0) 19,25 ; -556.3,-253.54 556.3,-253.54 556.3,253.54 -556.3,253.54 -556.3,-253.54
  lines w10: 19,-21 ccw(c19,0) 19,21

## TSOP32 [mil]
pads (32):
  rect 14.17x47.24 smd: 1(-147.64,-387.8) 2(-127.95,-387.8) 3(-108.27,-387.8) 4(-88.58,-387.8) 5(-68.9,-387.8) 6(-49.21,-387.8) 7(-29.53,-387.8) 8(-9.84,-387.8) 9(9.84,-387.8) 10(29.53,-387.8) 11(49.21,-387.8) 12(68.9,-387.8) 13(88.58,-387.8) 14(108.27,-387.8) 15(127.95,-387.8) 16(147.64,-387.8) 17(147.64,387.8) 18(127.95,387.8) 19(108.27,387.8) 20(88.58,387.8) 21(68.9,387.8) 22(49.21,387.8) 23(29.53,387.8) 24(9.84,387.8) 25(-9.84,387.8) 26(-29.53,387.8) 27(-49.21,387.8) 28(-68.9,387.8) 29(-88.58,387.8) 30(-108.27,387.8) 31(-127.95,387.8) 32(-147.64,387.8)
Top Overlay:
  circle w10: c-118.11,-323.23 r15.75
  lines w10: -153.54,-354.33 -153.54,354.33 153.54,354.33 153.54,-354.33 -153.54,-354.33
Mechanical 16:
  rectangle: -153.64,-398.02 -141.64,-356.02
  rectangle: -133.95,-398.02 -121.95,-356.02
  rectangle: -114.27,-398.02 -102.27,-356.02
  rectangle: -94.58,-398.02 -82.58,-356.02
  rectangle: -74.9,-398.02 -62.9,-356.02
  rectangle: -55.21,-398.02 -43.21,-356.02
  rectangle: -35.53,-398.02 -23.53,-356.02
  rectangle: -15.84,-398.02 -3.84,-356.02
  rectangle: 3.84,-398.02 15.84,-356.02
  rectangle: 23.53,-398.02 35.53,-356.02
  rectangle: 43.21,-398.02 55.21,-356.02
  rectangle: 62.9,-398.02 74.9,-356.02
  rectangle: 82.58,-398.02 94.58,-356.02
  rectangle: 102.27,-398.02 114.27,-356.02
  rectangle: 121.95,-398.02 133.95,-356.02
  rectangle: 141.64,-398.02 153.64,-356.02
  rectangle: 141.64,356.02 153.64,398.02
  rectangle: 121.95,356.02 133.95,398.02
  rectangle: 102.27,356.02 114.27,398.02
  rectangle: 82.58,356.02 94.58,398.02
  rectangle: 62.9,356.02 74.9,398.02
  rectangle: 43.21,356.02 55.21,398.02
  rectangle: 23.53,356.02 35.53,398.02
  rectangle: 3.84,356.02 15.84,398.02
  rectangle: -15.84,356.02 -3.84,398.02
  rectangle: -35.53,356.02 -23.53,398.02
  rectangle: -55.21,356.02 -43.21,398.02
  rectangle: -74.9,356.02 -62.9,398.02
  rectangle: -94.58,356.02 -82.58,398.02
  rectangle: -114.27,356.02 -102.27,398.02
  rectangle: -133.95,356.02 -121.95,398.02
  rectangle: -153.64,356.02 -141.64,398.02

## TSOP40 [mil]
pads (40):
  rect 11.81x62.99 smd: 1(-187.01,-377.95) 2(-167.32,-377.95) 3(-147.64,-377.95) 4(-127.95,-377.95) 5(-108.27,-377.95) 6(-88.58,-377.95) 7(-68.9,-377.95) 8(-49.21,-377.95) 9(-29.53,-377.95) 10(-9.84,-377.95) 11(9.84,-377.95) 12(29.53,-377.95) 13(49.21,-377.95) 14(68.9,-377.95) 15(88.58,-377.95) 16(108.27,-377.95) 17(127.95,-377.95) 18(147.64,-377.95) 19(167.32,-377.95) 20(187.01,-377.95) 21(187.01,377.95) 22(167.32,377.95) 23(147.64,377.95) 24(127.95,377.95) 25(108.27,377.95) 26(88.58,377.95) 27(68.9,377.95) 28(49.21,377.95) 29(29.53,377.95) 30(9.84,377.95) 31(-9.84,377.95) 32(-29.53,377.95) 33(-49.21,377.95) 34(-68.9,377.95) 35(-88.58,377.95) 36(-108.27,377.95) 37(-127.95,377.95) 38(-147.64,377.95) 39(-167.32,377.95) 40(-187.01,377.95)
Top Overlay:
  circle w10: c-173.23,-311.02 r11.81
  text "40" at -186.27,296.06 h49.6
Mechanical 16:
  rectangle: -192.91,-397.64 -181.1,-364.17
  rectangle: -173.23,-397.64 -161.42,-364.17
  rectangle: -153.54,-397.64 -141.73,-364.17
  rectangle: -133.86,-397.64 -122.05,-364.17
  rectangle: -114.17,-397.64 -102.36,-364.17
  rectangle: -94.49,-397.64 -82.68,-364.17
  rectangle: -74.8,-397.64 -62.99,-364.17
  rectangle: -55.12,-397.64 -43.31,-364.17
  rectangle: -35.43,-397.64 -23.62,-364.17
  rectangle: -15.75,-397.64 -3.94,-364.17
  rectangle: 3.94,-397.64 15.75,-364.17
  rectangle: 23.62,-397.64 35.43,-364.17
  rectangle: 43.31,-397.64 55.12,-364.17
  rectangle: 62.99,-397.64 74.8,-364.17
  rectangle: 82.68,-397.64 94.49,-364.17
  rectangle: 102.36,-397.64 114.17,-364.17
  rectangle: 122.05,-397.64 133.86,-364.17
  rectangle: 141.73,-397.64 153.54,-364.17
  rectangle: 161.42,-397.64 173.23,-364.17
  rectangle: 181.1,-397.64 192.91,-364.17
  rectangle: 181.1,364.17 192.91,397.64
  rectangle: 161.42,364.17 173.23,397.64
  rectangle: 141.73,364.17 153.54,397.64
  rectangle: 122.05,364.17 133.86,397.64
  rectangle: 102.36,364.17 114.17,397.64
  rectangle: 82.68,364.17 94.49,397.64
  rectangle: 62.99,364.17 74.8,397.64
  rectangle: 43.31,364.17 55.12,397.64
  rectangle: 23.62,364.17 35.43,397.64
  rectangle: 3.94,364.17 15.75,397.64
  rectangle: -15.75,364.17 -3.94,397.64
  rectangle: -35.43,364.17 -23.62,397.64
  rectangle: -55.12,364.17 -43.31,397.64
  rectangle: -74.8,364.17 -62.99,397.64
  rectangle: -94.49,364.17 -82.68,397.64
  rectangle: -114.17,364.17 -102.36,397.64
  rectangle: -133.86,364.17 -122.05,397.64
  rectangle: -153.54,364.17 -141.73,397.64
  rectangle: -173.23,364.17 -161.42,397.64
  rectangle: -192.91,364.17 -181.1,397.64
  lines w8: -196.65,-362.01 196.65,-362.01 196.65,362.01 -196.65,362.01 -196.65,-362.01

## TSOP48 [mil]
pads (48):
  rect 11.81x62.99 smd: 1(-226.38,-377.95) 2(-206.69,-377.95) 3(-187.01,-377.95) 4(-167.32,-377.95) 5(-147.64,-377.95) 6(-127.95,-377.95) 7(-108.27,-377.95) 8(-88.58,-377.95) 9(-68.9,-377.95) 10(-49.21,-377.95) 11(-29.53,-377.95) 12(-9.84,-377.95) 13(9.84,-377.95) 14(29.53,-377.95) 15(49.21,-377.95) 16(68.9,-377.95) 17(88.58,-377.95) 18(108.27,-377.95) 19(127.95,-377.95) 20(147.64,-377.95) 21(167.32,-377.95) 22(187.01,-377.95) 23(206.69,-377.95) 24(226.38,-377.95) 25(226.38,377.95) 26(206.69,377.95) 27(187.01,377.95) 28(167.32,377.95) 29(147.64,377.95) 30(127.95,377.95) 31(108.27,377.95) 32(88.58,377.95) 33(68.9,377.95) 34(49.21,377.95) 35(29.53,377.95) 36(9.84,377.95) 37(-9.84,377.95) 38(-29.53,377.95) 39(-49.21,377.95) 40(-68.9,377.95) 41(-88.58,377.95) 42(-108.27,377.95) 43(-127.95,377.95) 44(-147.64,377.95) 45(-167.32,377.95) 46(-187.01,377.95) 47(-206.69,377.95) 48(-226.38,377.95)
Top Overlay:
  circle w10: c-196.85,-314.96 r19.69
  text "1" at -225.64,-274.8 h49.6
  text "48" at -225.64,296.06 h49.6
Mechanical 16:
  rectangle: -232.28,-397.64 -220.47,-364.17
  rectangle: -212.6,-397.64 -200.79,-364.17
  rectangle: -192.91,-397.64 -181.1,-364.17
  rectangle: -173.23,-397.64 -161.42,-364.17
  rectangle: -153.54,-397.64 -141.73,-364.17
  rectangle: -133.86,-397.64 -122.05,-364.17
  rectangle: -114.17,-397.64 -102.36,-364.17
  rectangle: -94.49,-397.64 -82.68,-364.17
  rectangle: -74.8,-397.64 -62.99,-364.17
  rectangle: -55.12,-397.64 -43.31,-364.17
  rectangle: -35.43,-397.64 -23.62,-364.17
  rectangle: -15.75,-397.64 -3.94,-364.17
  rectangle: 3.94,-397.64 15.75,-364.17
  rectangle: 23.62,-397.64 35.43,-364.17
  rectangle: 43.31,-397.64 55.12,-364.17
  rectangle: 62.99,-397.64 74.8,-364.17
  rectangle: 82.68,-397.64 94.49,-364.17
  rectangle: 102.36,-397.64 114.17,-364.17
  rectangle: 122.05,-397.64 133.86,-364.17
  rectangle: 141.73,-397.64 153.54,-364.17
  rectangle: 161.42,-397.64 173.23,-364.17
  rectangle: 181.1,-397.64 192.91,-364.17
  rectangle: 200.79,-397.64 212.6,-364.17
  rectangle: 220.47,-397.64 232.28,-364.17
  rectangle: 220.47,364.17 232.28,397.64
  rectangle: 200.79,364.17 212.6,397.64
  rectangle: 181.1,364.17 192.91,397.64
  rectangle: 161.42,364.17 173.23,397.64
  rectangle: 141.73,364.17 153.54,397.64
  rectangle: 122.05,364.17 133.86,397.64
  rectangle: 102.36,364.17 114.17,397.64
  rectangle: 82.68,364.17 94.49,397.64
  rectangle: 62.99,364.17 74.8,397.64
  rectangle: 43.31,364.17 55.12,397.64
  rectangle: 23.62,364.17 35.43,397.64
  rectangle: 3.94,364.17 15.75,397.64
  rectangle: -15.75,364.17 -3.94,397.64
  rectangle: -35.43,364.17 -23.62,397.64
  rectangle: -55.12,364.17 -43.31,397.64
  rectangle: -74.8,364.17 -62.99,397.64
  rectangle: -94.49,364.17 -82.68,397.64
  rectangle: -114.17,364.17 -102.36,397.64
  rectangle: -133.86,364.17 -122.05,397.64
  rectangle: -153.54,364.17 -141.73,397.64
  rectangle: -173.23,364.17 -161.42,397.64
  rectangle: -192.91,364.17 -181.1,397.64
  rectangle: -212.6,364.17 -200.79,397.64
  rectangle: -232.28,364.17 -220.47,397.64
  rectangle: -30,16.11 -16,38.11
  rectangle: 16,16.11 30,38.11
  rectangle: 5,-126.89 15,-96.89
  rectangle: -30,13.11 30,28.11
  region: 0,0 10,0 10,10 0,10
  region: 0,0 10,0 10,10 0,10
  region: 0,0 10,0 10,10 0,10
  region: 0,0 10,0 10,10 0,10
  lines w2: -29,37.11 cw(c0,37.11) 29,37.11
  lines w8: -25,37.11 cw(c0,37.11) 25,37.11 ; -236.02,-362.01 236.02,-362.01 236.02,362.01 -236.02,362.01 -236.02,-362.01
  lines w10: -21,37.11 cw(c0,37.11) 21,37.11

## TSOP56 [mm]
pads (56):
  rect 1x0.27 smd: 1(-9.7,6.75) 2(-9.7,6.25) 3(-9.7,5.75) 4(-9.7,5.25) 5(-9.7,4.75) 6(-9.7,4.25) 7(-9.7,3.75) 8(-9.7,3.25) 9(-9.7,2.75) 10(-9.7,2.25) 11(-9.7,1.75) 12(-9.7,1.25) 13(-9.7,0.75) 14(-9.7,0.25) 15(-9.7,-0.25) 16(-9.7,-0.75) 17(-9.7,-1.25) 18(-9.7,-1.75) 19(-9.7,-2.25) 20(-9.7,-2.75) 21(-9.7,-3.25) 22(-9.7,-3.75) 23(-9.7,-4.25) 24(-9.7,-4.75) 25(-9.7,-5.25) 26(-9.7,-5.75) 27(-9.7,-6.25) 28(-9.7,-6.75) 29(9.7,-6.75) 30(9.7,-6.25) 31(9.7,-5.75) 32(9.7,-5.25) 33(9.7,-4.75) 34(9.7,-4.25) 35(9.7,-3.75) 36(9.7,-3.25) 37(9.7,-2.75) 38(9.7,-2.25) 39(9.7,-1.75) 40(9.7,-1.25) 41(9.7,-0.75) 42(9.7,-0.25) 43(9.7,0.25) 44(9.7,0.75) 45(9.7,1.25) 46(9.7,1.75) 47(9.7,2.25) 48(9.7,2.75) 49(9.7,3.25) 50(9.7,3.75) 51(9.7,4.25) 52(9.7,4.75) 53(9.7,5.25) 54(9.7,5.75) 55(9.7,6.25) 56(9.7,6.75)
Top Overlay:
  circle w0.254: c-7.874,5.842 r0.508
  lines w0.254: -9.05,-6.85 9.05,-6.85 9.05,6.85 -9.05,6.85 -9.05,-6.85
Mechanical 16:
  rectangle: -10,6.625 -9.15,6.875
  rectangle: -10,6.125 -9.15,6.375
  rectangle: -10,5.625 -9.15,5.875
  rectangle: -10,5.125 -9.15,5.375
  rectangle: -10,4.625 -9.15,4.875
  rectangle: -10,4.125 -9.15,4.375
  rectangle: -10,3.625 -9.15,3.875
  rectangle: -10,3.125 -9.15,3.375
  rectangle: -10,2.625 -9.15,2.875
  rectangle: -10,2.125 -9.15,2.375
  rectangle: -10,1.625 -9.15,1.875
  rectangle: -10,1.125 -9.15,1.375
  rectangle: -10,0.625 -9.15,0.875
  rectangle: -10,0.125 -9.15,0.375
  rectangle: -10,-0.375 -9.15,-0.125
  rectangle: -10,-0.875 -9.15,-0.625
  rectangle: -10,-1.375 -9.15,-1.125
  rectangle: -10,-1.875 -9.15,-1.625
  rectangle: -10,-2.375 -9.15,-2.125
  rectangle: -10,-2.875 -9.15,-2.625
  rectangle: -10,-3.375 -9.15,-3.125
  rectangle: -10,-3.875 -9.15,-3.625
  rectangle: -10,-4.375 -9.15,-4.125
  rectangle: -10,-4.875 -9.15,-4.625
  rectangle: -10,-5.375 -9.15,-5.125
  rectangle: -10,-5.875 -9.15,-5.625
  rectangle: -10,-6.375 -9.15,-6.125
  rectangle: -10,-6.875 -9.15,-6.625
  region: 10,-6.625 9.15,-6.625 9.15,-6.875 10,-6.875
  region: 10,-6.125 9.15,-6.125 9.15,-6.375 10,-6.375
  region: 10,-5.625 9.15,-5.625 9.15,-5.875 10,-5.875
  region: 10,-5.125 9.15,-5.125 9.15,-5.375 10,-5.375
  region: 10,-4.625 9.15,-4.625 9.15,-4.875 10,-4.875
  region: 10,-4.125 9.15,-4.125 9.15,-4.375 10,-4.375
  region: 10,-3.625 9.15,-3.625 9.15,-3.875 10,-3.875
  region: 10,-3.125 9.15,-3.125 9.15,-3.375 10,-3.375
  region: 10,-2.625 9.15,-2.625 9.15,-2.875 10,-2.875
  region: 10,-2.125 9.15,-2.125 9.15,-2.375 10,-2.375
  region: 10,-1.625 9.15,-1.625 9.15,-1.875 10,-1.875
  region: 10,-1.125 9.15,-1.125 9.15,-1.375 10,-1.375
  region: 10,-0.625 9.15,-0.625 9.15,-0.875 10,-0.875
  region: 10,-0.125 9.15,-0.125 9.15,-0.375 10,-0.375
  region: 10,0.375 9.15,0.375 9.15,0.125 10,0.125
  region: 10,0.875 9.15,0.875 9.15,0.625 10,0.625
  region: 10,1.375 9.15,1.375 9.15,1.125 10,1.125
  region: 10,1.875 9.15,1.875 9.15,1.625 10,1.625
  region: 10,2.375 9.15,2.375 9.15,2.125 10,2.125
  region: 10,2.875 9.15,2.875 9.15,2.625 10,2.625
  region: 10,3.375 9.15,3.375 9.15,3.125 10,3.125
  region: 10,3.875 9.15,3.875 9.15,3.625 10,3.625
  region: 10,4.375 9.15,4.375 9.15,4.125 10,4.125
  region: 10,4.875 9.15,4.875 9.15,4.625 10,4.625
  region: 10,5.375 9.15,5.375 9.15,5.125 10,5.125
  region: 10,5.875 9.15,5.875 9.15,5.625 10,5.625
  region: 10,6.375 9.15,6.375 9.15,6.125 10,6.125
  region: 10,6.875 9.15,6.875 9.15,6.625 10,6.625

## TSOP56R [mm]
pads (56):
  rect 1x0.27 smd: 1(-9.7,6.75) 2(-9.7,6.25) 3(-9.7,5.75) 4(-9.7,5.25) 5(-9.7,4.75) 6(-9.7,4.25) 7(-9.7,3.75) 8(-9.7,3.25) 9(-9.7,2.75) 10(-9.7,2.25) 11(-9.7,1.75) 12(-9.7,1.25) 13(-9.7,0.75) 14(-9.7,0.25) 15(-9.7,-0.25) 16(-9.7,-0.75) 17(-9.7,-1.25) 18(-9.7,-1.75) 19(-9.7,-2.25) 20(-9.7,-2.75) 21(-9.7,-3.25) 22(-9.7,-3.75) 23(-9.7,-4.25) 24(-9.7,-4.75) 25(-9.7,-5.25) 26(-9.7,-5.75) 27(-9.7,-6.25) 28(-9.7,-6.75) 29(9.7,-6.75) 30(9.7,-6.25) 31(9.7,-5.75) 32(9.7,-5.25) 33(9.7,-4.75) 34(9.7,-4.25) 35(9.7,-3.75) 36(9.7,-3.25) 37(9.7,-2.75) 38(9.7,-2.25) 39(9.7,-1.75) 40(9.7,-1.25) 41(9.7,-0.75) 42(9.7,-0.25) 43(9.7,0.25) 44(9.7,0.75) 45(9.7,1.25) 46(9.7,1.75) 47(9.7,2.25) 48(9.7,2.75) 49(9.7,3.25) 50(9.7,3.75) 51(9.7,4.25) 52(9.7,4.75) 53(9.7,5.25) 54(9.7,5.75) 55(9.7,6.25) 56(9.7,6.75)
Top Overlay:
  circle w0.254: c7.874,5.842 r0.508
  lines w0.254: -9.05,-6.85 9.05,-6.85 9.05,6.85 -9.05,6.85 -9.05,-6.85 ; -8.382,6.35 -7.366,6.35 -7.874,5.334 -8.382,6.35
Mechanical 16:
  rectangle: -10,6.625 -9.15,6.875
  rectangle: -10,6.125 -9.15,6.375
  rectangle: -10,5.625 -9.15,5.875
  rectangle: -10,5.125 -9.15,5.375
  rectangle: -10,4.625 -9.15,4.875
  rectangle: -10,4.125 -9.15,4.375
  rectangle: -10,3.625 -9.15,3.875
  rectangle: -10,3.125 -9.15,3.375
  rectangle: -10,2.625 -9.15,2.875
  rectangle: -10,2.125 -9.15,2.375
  rectangle: -10,1.625 -9.15,1.875
  rectangle: -10,1.125 -9.15,1.375
  rectangle: -10,0.625 -9.15,0.875
  rectangle: -10,0.125 -9.15,0.375
  rectangle: -10,-0.375 -9.15,-0.125
  rectangle: -10,-0.875 -9.15,-0.625
  rectangle: -10,-1.375 -9.15,-1.125
  rectangle: -10,-1.875 -9.15,-1.625
  rectangle: -10,-2.375 -9.15,-2.125
  rectangle: -10,-2.875 -9.15,-2.625
  rectangle: -10,-3.375 -9.15,-3.125
  rectangle: -10,-3.875 -9.15,-3.625
  rectangle: -10,-4.375 -9.15,-4.125
  rectangle: -10,-4.875 -9.15,-4.625
  rectangle: -10,-5.375 -9.15,-5.125
  rectangle: -10,-5.875 -9.15,-5.625
  rectangle: -10,-6.375 -9.15,-6.125
  rectangle: -10,-6.875 -9.15,-6.625
  region: 10,-6.625 9.15,-6.625 9.15,-6.875 10,-6.875
  region: 10,-6.125 9.15,-6.125 9.15,-6.375 10,-6.375
  region: 10,-5.625 9.15,-5.625 9.15,-5.875 10,-5.875
  region: 10,-5.125 9.15,-5.125 9.15,-5.375 10,-5.375
  region: 10,-4.625 9.15,-4.625 9.15,-4.875 10,-4.875
  region: 10,-4.125 9.15,-4.125 9.15,-4.375 10,-4.375
  region: 10,-3.625 9.15,-3.625 9.15,-3.875 10,-3.875
  region: 10,-3.125 9.15,-3.125 9.15,-3.375 10,-3.375
  region: 10,-2.625 9.15,-2.625 9.15,-2.875 10,-2.875
  region: 10,-2.125 9.15,-2.125 9.15,-2.375 10,-2.375
  region: 10,-1.625 9.15,-1.625 9.15,-1.875 10,-1.875
  region: 10,-1.125 9.15,-1.125 9.15,-1.375 10,-1.375
  region: 10,-0.625 9.15,-0.625 9.15,-0.875 10,-0.875
  region: 10,-0.125 9.15,-0.125 9.15,-0.375 10,-0.375
  region: 10,0.375 9.15,0.375 9.15,0.125 10,0.125
  region: 10,0.875 9.15,0.875 9.15,0.625 10,0.625
  region: 10,1.375 9.15,1.375 9.15,1.125 10,1.125
  region: 10,1.875 9.15,1.875 9.15,1.625 10,1.625
  region: 10,2.375 9.15,2.375 9.15,2.125 10,2.125
  region: 10,2.875 9.15,2.875 9.15,2.625 10,2.625
  region: 10,3.375 9.15,3.375 9.15,3.125 10,3.125
  region: 10,3.875 9.15,3.875 9.15,3.625 10,3.625
  region: 10,4.375 9.15,4.375 9.15,4.125 10,4.125
  region: 10,4.875 9.15,4.875 9.15,4.625 10,4.625
  region: 10,5.375 9.15,5.375 9.15,5.125 10,5.125
  region: 10,5.875 9.15,5.875 9.15,5.625 10,5.625
  region: 10,6.375 9.15,6.375 9.15,6.125 10,6.125
  region: 10,6.875 9.15,6.875 9.15,6.625 10,6.625